# EAGLE library part OPA2544 (library opamps)
OPA2544: Dual high voltage, high current opamp (Burr-Brown) ±35V, ±2A, 50pA bias 5mV offset, 1.4MHz UGF, 36nV/rt(Hz) noise
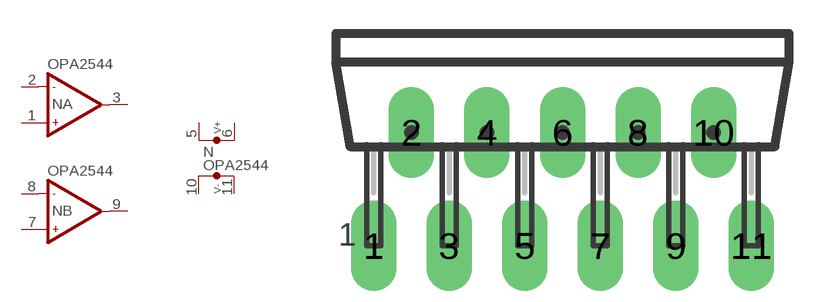
[diagram p236: symbol with the pads of TO220-11A; footprint TO220-11A]

Designator prefix N; gates A=OP-NAME B=OP-NAME P=V2+2-B

## OPA2544  [TO220-11A]
1  A:IN+  in
2  A:IN-  in
3  A:OUT  out
5  P:V+  pwr
6  P:V+  pwr
7  B:IN+  in
8  B:IN-  in
9  B:OUT  out
10  P:V-  pwr
11  P:V-  pwr

## Footprint TO220-11A (pad centres in mm)
TO-220, alternating pads Power package, 11 pins
drill 1.092 pad 2.032 long: 1 -8.467,-2.54; 2 -6.773,2.54; 3 -5.08,-2.54; 4 -3.387,2.54; 5 -1.693,-2.54; 6 0,2.54; 7 1.693,-2.54; 8 3.387,2.54; 9 5.08,-2.54; 10 6.773,2.54; 11 8.467,-2.54